# Altium integrated library ASE-24.000MHZ-LR-T.IntLib: 1 symbol
Pins are listed as number, name and electrical type; pins without a type are passive.

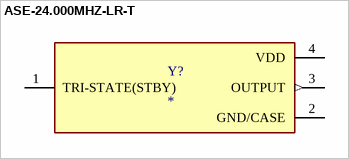
[diagram p0: symbol ASE-24.000MHZ-LR-T]

## ASE-24.000MHZ-LR-T
designator Y?
MP: ASE-24.000MHZ-LR-T; Price: None; Package: None; Availability: Unavailable; Value: *
footprint XTAL_ASE-24.000MHZ-LR-T
pins: 1 TRI-STATE(STBY), 2 GND/CASE (power), 3 OUTPUT (out), 4 VDD (power)